# Altium footprint library INDPM122123X620N.PcbLib: 1 footprints
Each footprint in its own frame and in the unit in brackets; x right, y up, seen from the top. Pads: shape width x height; smd on the part's side, far side on the other; paste and mask are expansions set on the pad; w line width, h text height; cw(c..) or ccw(c..) is an arc to the next point about the centre after c.
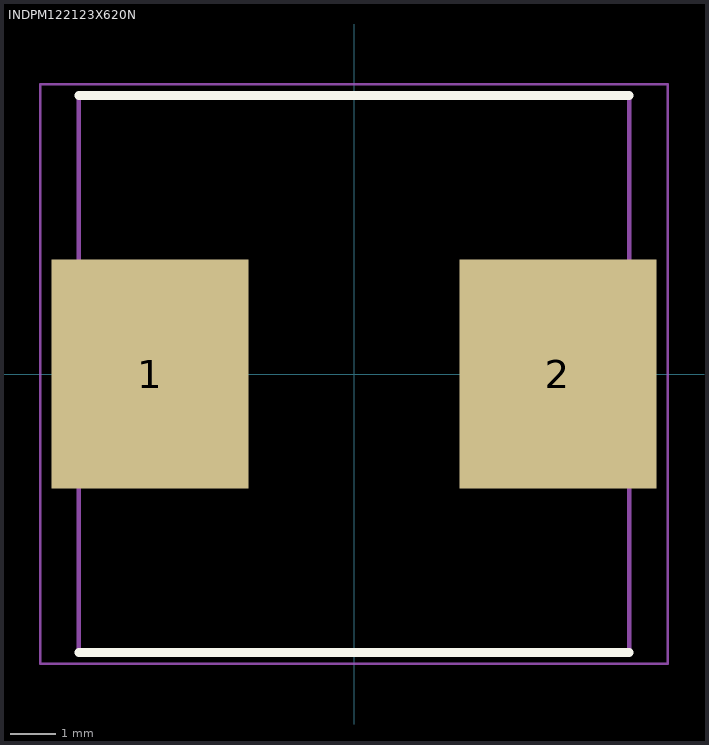
[diagram p0: the footprint, top view; thin cyan lines are the x and y axes]

## INDPM122123X620N [mm]
pads (2):
  rect 4.35x5.05 smd: 1(-4.5,0) 2(4.5,0)
Top Overlay:
  lines w0.2: -6.075,-6.15 6.075,-6.15 ; -6.075,6.15 6.075,6.15
Mechanical 15:
  lines w0.1: -6.075,-6.15 6.075,-6.15 6.075,6.15 -6.075,6.15 -6.075,-6.15
Mechanical 20:
  lines w0.05: -6.925,-6.4 6.925,-6.4 6.925,6.4 -6.925,6.4 -6.925,-6.4